# Altium schematic symbol library TSR22450.SchLib: 1 symbol
Pins are listed as number, name and electrical type; pins without a type are passive.

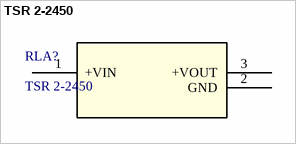
[diagram p0: symbol TSR 2-2450]

## TSR 2-2450
designator RLA?
No Description Available; Built_By: EMA_Justin; Vendor: Traco Power; SourceLibrary: Traco_Power_2020-06-03; Datasheet: https://www.tracopower.com/products/tsr2.pdf; Copyright: Copyright (C) 2018 Accelerated Designs. All rights reserved; Manufacturer_Part_Number: TSR 2-2450; RefDes: RefDes; Type: DEV
footprint TSR22450
pins: 1 +VIN, 2 GND, 3 +VOUT